# Altium footprint library Connecteur UltraSon.PcbLib: 1 footprints
Each footprint in its own frame and in the unit in brackets; x right, y up, seen from the top. Pads: shape width x height; smd on the part's side, far side on the other; paste and mask are expansions set on the pad; w line width, h text height; cw(c..) or ccw(c..) is an arc to the next point about the centre after c.
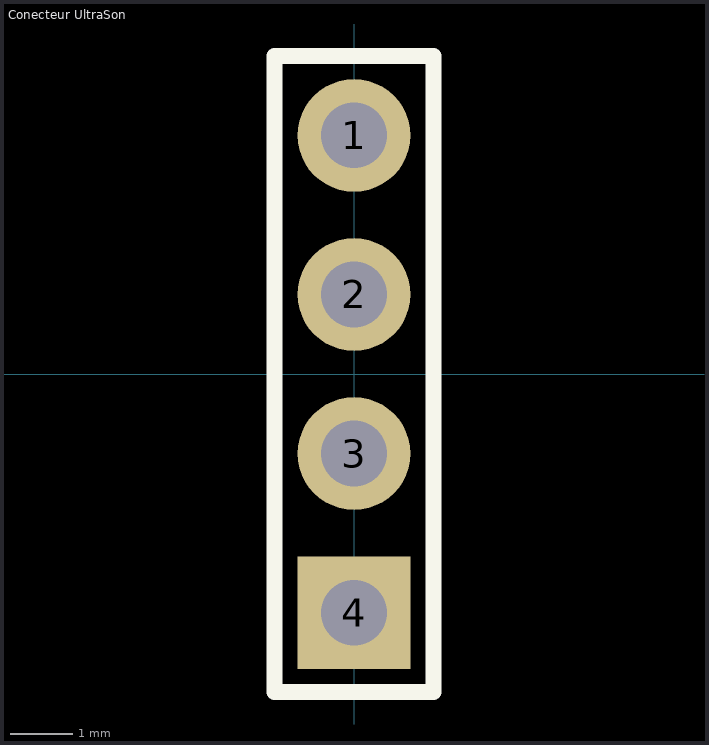
[diagram p0: the footprint, top view; thin cyan lines are the x and y axes]

## Conecteur UltraSon [mm]
height 7
pads (4):
  round 1.8 hole 1.05: 1(0,3.81) 2(0,1.27) 3(0,-1.27)
  rect 1.8x1.8 hole 1.05: 4(0,-3.81)
Top Overlay:
  lines w0.254: -1.27,-5.08 -1.27,5.08 1.27,5.08 1.27,-5.08 -1.27,-5.08